# Altium schematic symbol library ADC101S021CIMF.SchLib: 1 symbol
Pins are listed as number, name and electrical type; pins without a type are passive.

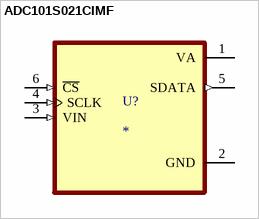
[diagram p0: symbol ADC101S021CIMF]

## ADC101S021CIMF
designator U?
MF: {'manufacturer': u'Texas Instruments'}; MP: ADC101S021CIMFX/NOPB; Package: None; Price: None; Value: *; Availability: Unavailable
footprint SOT95P280X145-6N
pins: 1 VA (power), 2 GND (power), 3 VIN (in), 4 SCLK (in), 5 SDATA (out), 6 ~{CS} (in)